# Altium footprint library 2-SMD(6.0x3.5mm).PcbLib: 1 footprints
Each footprint in its own frame and in the unit in brackets; x right, y up, seen from the top. Pads: shape width x height; smd on the part's side, far side on the other; paste and mask are expansions set on the pad; w line width, h text height; cw(c..) or ccw(c..) is an arc to the next point about the centre after c.
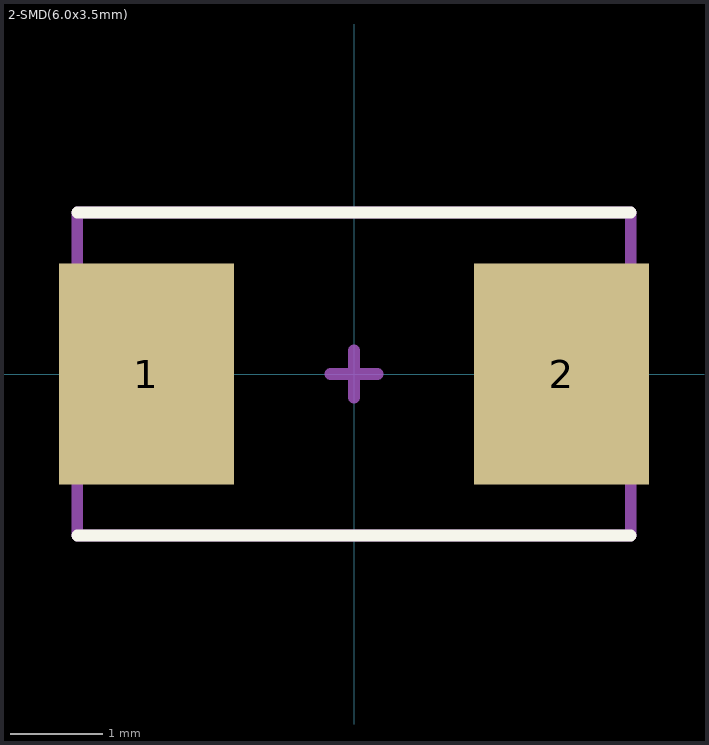
[diagram p0: the footprint, top view; thin cyan lines are the x and y axes]

## 2-SMD(6.0x3.5mm) [mm]
pads (2):
  rect 1.9x2.4 smd mask+0.051: 1(-2.25,0) 2(2.25,0)
Top Overlay:
  lines w0.127: -3,-1.75 3,-1.75 ; -3,1.75 3,1.75
Top Designator:
  text ".Designator" at -7.618,-0.508 h1.52
3D Body:
  lines w0.127: -3,-1.75 3,-1.75 3,1.75 -3,1.75 -3,-1.75
Center Cross:
  lines w0.127: -0.254,0 0,0 ; 0,-0.254 0,0 ; 0,0.254 0,0 ; 0.254,0 0,0
3D body "step_temp.STEP": height 1.2, standoff 0, extent -3,-1.75 3,1.75